# EAGLE library part SI5936DU (library Public)
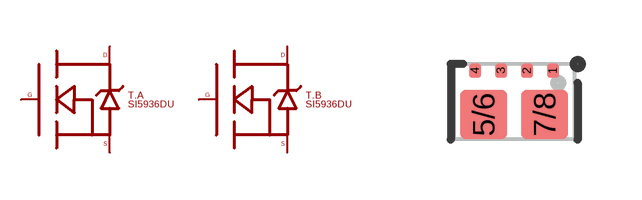
[diagram p226: symbol with the pads of POWERPAK_CHIPFET_DUAL; footprint POWERPAK_CHIPFET_DUAL]

Designator prefix T; gates .A=MOSFET_N_WITH_BODYDIODE .B=MOSFET_N_WITH_BODYDIODE

## SI5936DU  [POWERPAK_CHIPFET_DUAL]
1  .A:S
2  .A:G
3  .B:S
4  .B:G
5/6  .B:D
7/8  .A:D

## Footprint POWERPAK_CHIPFET_DUAL (pad centres in mm)
smd 0.3 x 0.35: 1 0.975,1.1; 2 0.325,1.1; 3 -0.325,1.1; 4 -0.975,1.1
smd 1.175 x 1.25: 5/6 -0.762,0; 7/8 0.762,0